# EAGLE library part *741 (library 0_HTL_ic)
Operational Amplifier
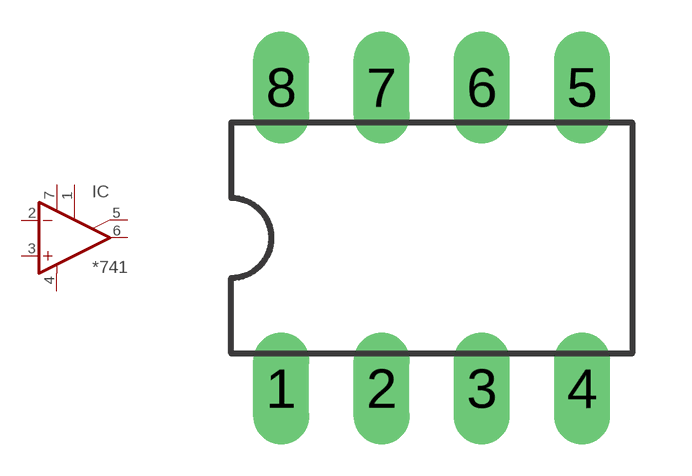
[diagram p0: symbol with the pads of DIL08; footprint DIL08]

Designator prefix IC

## LM741, UA741  [DIL08]
1  ON1  pas
2  +IN  in
3  -IN  in
4  V-  pwr
5  ON2  pas
6  OUT  out
7  V+  pwr

## Footprint DIL08 (pad centres in mm)
Dual In Line Package
drill 0.8 pad 1.422 long: 1 -3.81,-3.81; 2 -1.27,-3.81; 3 1.27,-3.81; 4 3.81,-3.81; 5 3.81,3.81; 6 1.27,3.81; 7 -1.27,3.81; 8 -3.81,3.81